# EAGLE library part AS-ITM-00255 (library tinycircuits)
IC MCU 8BIT 8KB FLASH 20VQFN
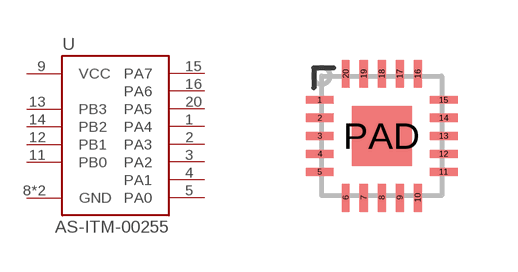
[diagram p102: symbol with the pads of VQFN-20; footprint VQFN-20]

Designator prefix U

## AS-ITM-00255 (PARTNO: AS-ITM-00255; VALUE: ATTINY841)  [VQFN-20]
1  PA4
2  PA3
3  PA2
4  PA1
5  PA0
8  GND
9  VCC
11  PB0
12  PB1
13  PB3
14  PB2
15  PA7
16  PA6
20  PA5
PAD  GND

## Footprint VQFN-20 (pad centres in mm)
smd 0.7 x 0.2: 1 -1.55,0.9; 2 -1.55,0.45; 3 -1.55,0; 4 -1.55,-0.45; 5 -1.55,-0.9; 11 1.55,-0.9; 12 1.55,-0.45; 13 1.55,0; 14 1.55,0.45; 15 1.55,0.9
smd 0.2 x 0.7: 6 -0.9,-1.55; 7 -0.45,-1.55; 8 0,-1.55; 9 0.45,-1.55; 10 0.9,-1.55; 16 0.9,1.55; 17 0.45,1.55; 18 0,1.55; 19 -0.45,1.55; 20 -0.9,1.55
smd 1.5 x 1.5: PAD 0,0